# EAGLE library part GE28F___L18T85-VFBGA79 (library m-pad-2.1)
Intel StrataFlash® Wireless Memory (L18) 28F640L18, 28F128L18, 28F256L18 Package: VFBGA-79 Description: The Intel StrataFlash® wireless memory (L18) device is the latest generation of Intel StrataFlash® memory devices featuring flexible, multiple-partition, dual operation. It provides high performance synchronous-burst read mode and asynchronous read mode using 1.8 V lowvoltage, multi-level cell (MLC) technology. High performance Read-While-Write/Erase -85 ns initial access -54 MHz with zero wait state, 14 ns clock-todata output synchronous-burst mode -25 ns asynchronous-page mode -4-, 8-, 16-, and continuous-word burst mode -Burst suspend -Programmable WAIT configuration -Buffered Enhanced Factory Programming (Buffered EFP): 5 µs/byte (Typ) -1.8 V low-power buffered and non-buffered programming at 7 µs/byte (Typ) Architecture -Asymmetrically-blocked architecture -Multiple 8-Mbit partitions: 64Mb and 128Mb devices -Multiple 16-Mbit partitions: 256Mb devices -Four 16-Kword parameter blocks: top or bottom configurations -64-Kword main blocks -Dual-operation: Read-While-Write (RWW) or Read-While-Erase (RWE) -Status register for partition and device status Power -1.7 V - 2.0 V VCC operation -I/O voltage: 1.35 V - 2.0 V, 1.7 V - 2.0 V -Standby current: 25 µA (Typ) -4-Word synchronous read current: 17 mA (Typ) at 54 MHz -Automatic Power Savings (APS) mode Please send any comments to: messi@users.sourceforge.net
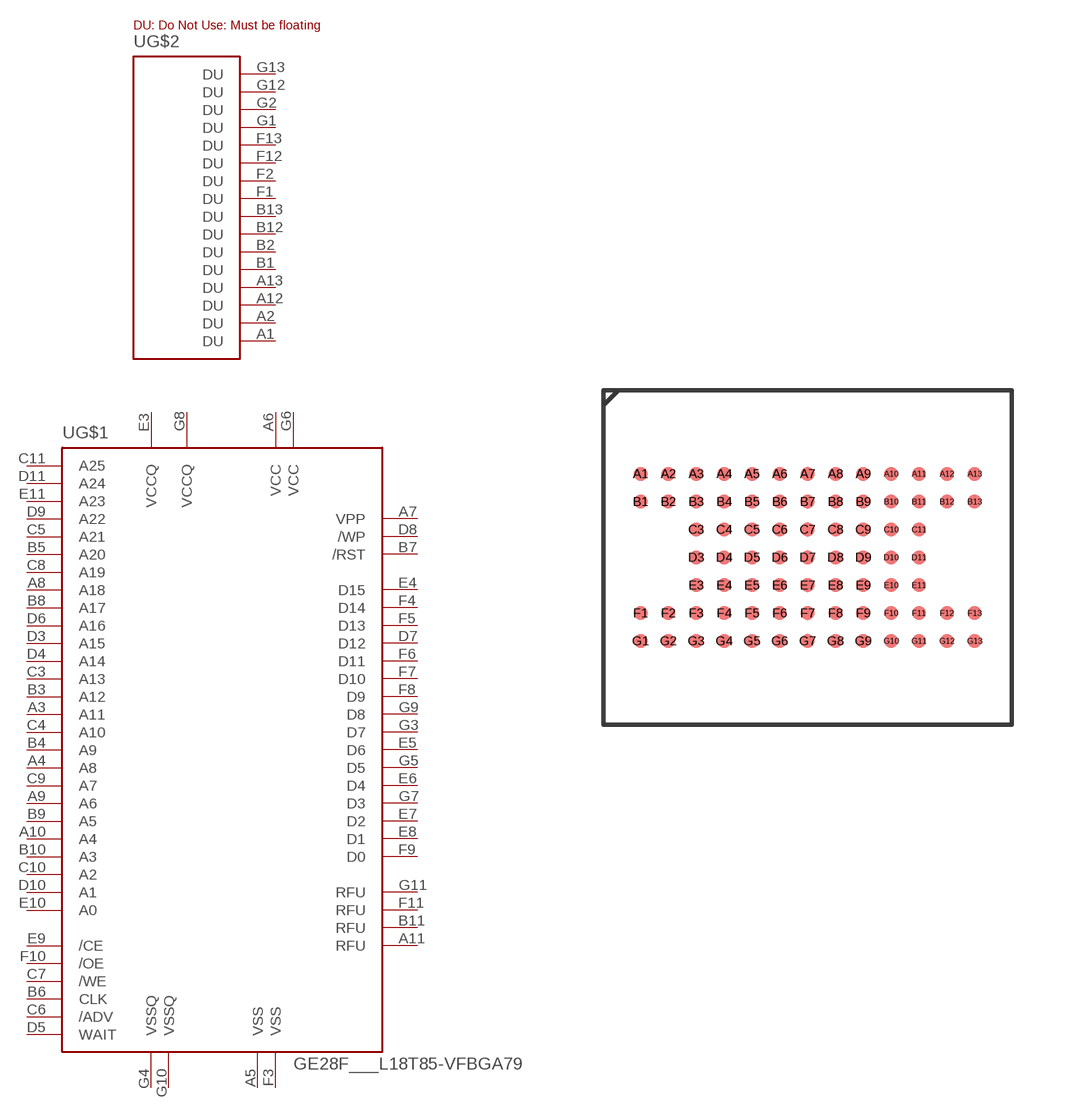
[diagram p16: symbol with the pads of 79VFBGA; footprint 79VFBGA]

Designator prefix U; gates G$1=GE28F_79VBGA G$2=GE28F_79VFBGA_DU

## GE28F___L18T85-VFBGA79  [79VFBGA]
A1  G$2:DU
A2  G$2:DU
A3  G$1:A11  in
A4  G$1:A8  in
A5  G$1:VSS  pwr
A6  G$1:VCC  in
A7  G$1:VPP  pwr
A8  G$1:A18  in
A9  G$1:A6  in
A10  G$1:A4  in
A11  G$1:RFU  nc
A12  G$2:DU
A13  G$2:DU
B1  G$2:DU
B2  G$2:DU
B3  G$1:A12  in
B4  G$1:A9  in
B5  G$1:A20  in
B6  G$1:CLK  in
B7  G$1:/RST  in
B8  G$1:A17  in
B9  G$1:A5  in
B10  G$1:A3  in
B11  G$1:RFU  nc
B12  G$2:DU
B13  G$2:DU
C3  G$1:A13  in
C4  G$1:A10  in
C5  G$1:A21  in
C6  G$1:/ADV  in
C7  G$1:/WE  in
C8  G$1:A19  in
C9  G$1:A7  in
C10  G$1:A2  in
C11  G$1:A25  in
D3  G$1:A15  in
D4  G$1:A14  in
D5  G$1:WAIT  out
D6  G$1:A16  in
D7  G$1:D12
D8  G$1:/WP  in
D9  G$1:A22  in
D10  G$1:A1  in
D11  G$1:A24  in
E3  G$1:VCCQ  in
E4  G$1:D15
E5  G$1:D6
E6  G$1:D4
E7  G$1:D2
E8  G$1:D1
E9  G$1:/CE  in
E10  G$1:A0  in
E11  G$1:A23  in
F1  G$2:DU
F2  G$2:DU
F3  G$1:VSS  pwr
F4  G$1:D14
F5  G$1:D13
F6  G$1:D11
F7  G$1:D10
F8  G$1:D9
F9  G$1:D0
F10  G$1:/OE  in
F11  G$1:RFU  nc
F12  G$2:DU
F13  G$2:DU
G1  G$2:DU
G2  G$2:DU
G3  G$1:D7
G4  G$1:VSSQ  pwr
G5  G$1:D5
G6  G$1:VCC  in
G7  G$1:D3
G8  G$1:VCCQ  in
G9  G$1:D8
G10  G$1:VSSQ  pwr
G11  G$1:RFU  nc
G12  G$2:DU
G13  G$2:DU

## Footprint 79VFBGA (pad centres in mm)
256-Mbit, 79-Ball VF BGA Package package with a 7 x 13 active-ball matrix pitch: 0.75 mm balldiameter: 0.375 Please send any comments to: messi@users.sourceforge.net
smd 0.375 x 0.375: A1 -4.5,2.25; A2 -3.75,2.25; A3 -3,2.25; A4 -2.25,2.25; A5 -1.5,2.25; A6 -0.75,2.25; A7 0,2.25; A8 0.75,2.25; A9 1.5,2.25; A10 2.25,2.25; A11 3,2.25; A12 3.75,2.25; A13 4.5,2.25; B1 -4.5,1.5; B2 -3.75,1.5; B3 -3,1.5; B4 -2.25,1.5; B5 -1.5,1.5; B6 -0.75,1.5; B7 0,1.5; B8 0.75,1.5; B9 1.5,1.5; B10 2.25,1.5; B11 3,1.5; B12 3.75,1.5; B13 4.5,1.5; C3 -3,0.75; C4 -2.25,0.75; C5 -1.5,0.75; C6 -0.75,0.75; C7 0,0.75; C8 0.75,0.75; C9 1.5,0.75; C10 2.25,0.75; C11 3,0.75; D3 -3,0; D4 -2.25,0; D5 -1.5,0; D6 -0.75,0; D7 0,0; D8 0.75,0; D9 1.5,0; D10 2.25,0; D11 3,0; E3 -3,-0.75; E4 -2.25,-0.75; E5 -1.5,-0.75; E6 -0.75,-0.75; E7 0,-0.75; E8 0.75,-0.75; E9 1.5,-0.75; E10 2.25,-0.75; E11 3,-0.75; F1 -4.5,-1.5; F2 -3.75,-1.5; F3 -3,-1.5; F4 -2.25,-1.5; F5 -1.5,-1.5; F6 -0.75,-1.5; F7 0,-1.5; F8 0.75,-1.5; F9 1.5,-1.5; F10 2.25,-1.5; F11 3,-1.5; F12 3.75,-1.5; F13 4.5,-1.5; G1 -4.5,-2.25; G2 -3.75,-2.25; G3 -3,-2.25; G4 -2.25,-2.25; G5 -1.5,-2.25; G6 -0.75,-2.25; G7 0,-2.25; G8 0.75,-2.25; G9 1.5,-2.25; G10 2.25,-2.25; G11 3,-2.25; G12 3.75,-2.25; G13 4.5,-2.25